# Altium footprint library myparts.PcbLib: 3 footprints
Each footprint in its own frame and in the unit in brackets; x right, y up, seen from the top. Pads: shape width x height; smd on the part's side, far side on the other; paste and mask are expansions set on the pad; w line width, h text height; cw(c..) or ccw(c..) is an arc to the next point about the centre after c.
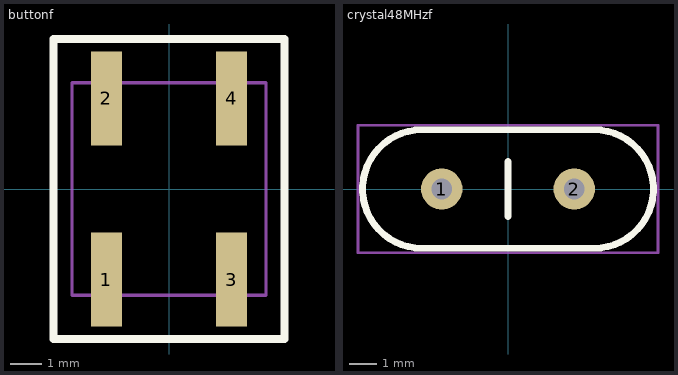
[diagram p0: the footprints below, top view; thin cyan lines are the x and y axes]

## buttonf [mm]
pads (4):
  rect 1x3 smd: 1(-2,-2.9) 2(-2,2.9) 3(2,-2.9) 4(2,2.9)
Top Overlay:
  lines w0.254: -3.7,-4.8 -3.7,4.8 3.7,4.8 3.7,-4.8 -3.7,-4.8
Mechanical 1:
  lines w0.1: -3.1,-3.4 -3.1,3.4 3.1,3.4 3.1,-3.4 -3.1,-3.4

## crystal48MHzf [mil]
pads (2):
  round 60 hole 30: 1(-96.06,0) 2(96.06,0)
Top Overlay:
  lines w10: 0,-40 0,40 ; -125,-85.87 cw(c-125,0) -125,85.87 125,85.87 cw(c125,0) 125,-85.87 -125,-85.87
Mechanical 1:
  lines w3.94: -217.52,-92.52 217.52,-92.52 217.52,92.52 -217.52,92.52 -217.52,-92.52

## PCBComponent_1 [mm]